# Altium footprint library PSU Lib.PcbLib: 1 footprints
Each footprint in its own frame and in the unit in brackets; x right, y up, seen from the top. Pads: shape width x height; smd on the part's side, far side on the other; paste and mask are expansions set on the pad; w line width, h text height; cw(c..) or ccw(c..) is an arc to the next point about the centre after c.
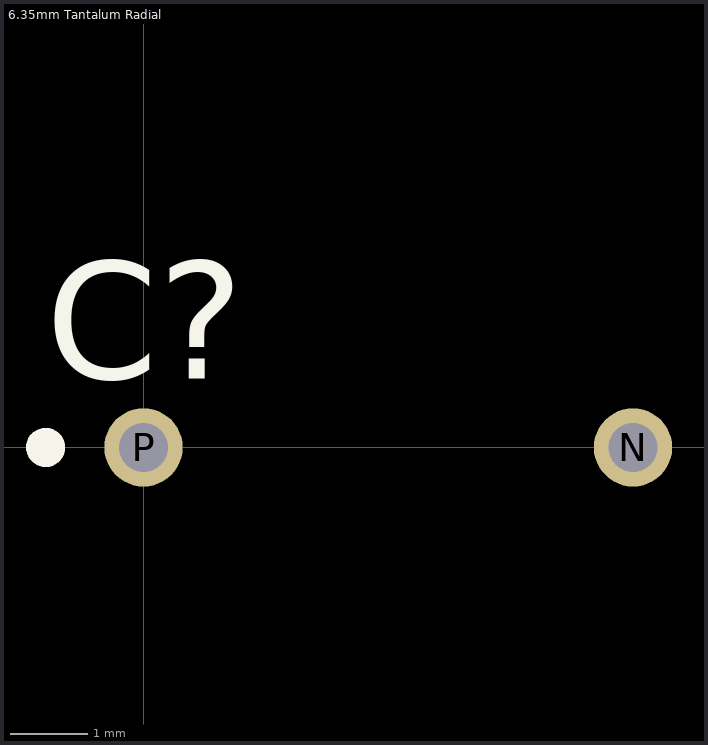
[diagram p0: the footprint, top view; thin cyan lines are the x and y axes]

## 6.35mm Tantalum Radial [mil]
pads (2):
  round 40 hole 25: N(250,0) P(0,0)
Top Overlay:
  circle w10: c-50,0 r5
  text "C?" at -50,35 h60